# Altium footprint library TransistorThyristor_PTH.PcbLib: 7 footprints
Each footprint in its own frame and in the unit in brackets; x right, y up, seen from the top. Pads: shape width x height; smd on the part's side, far side on the other; paste and mask are expansions set on the pad; w line width, h text height; cw(c..) or ccw(c..) is an arc to the next point about the centre after c.
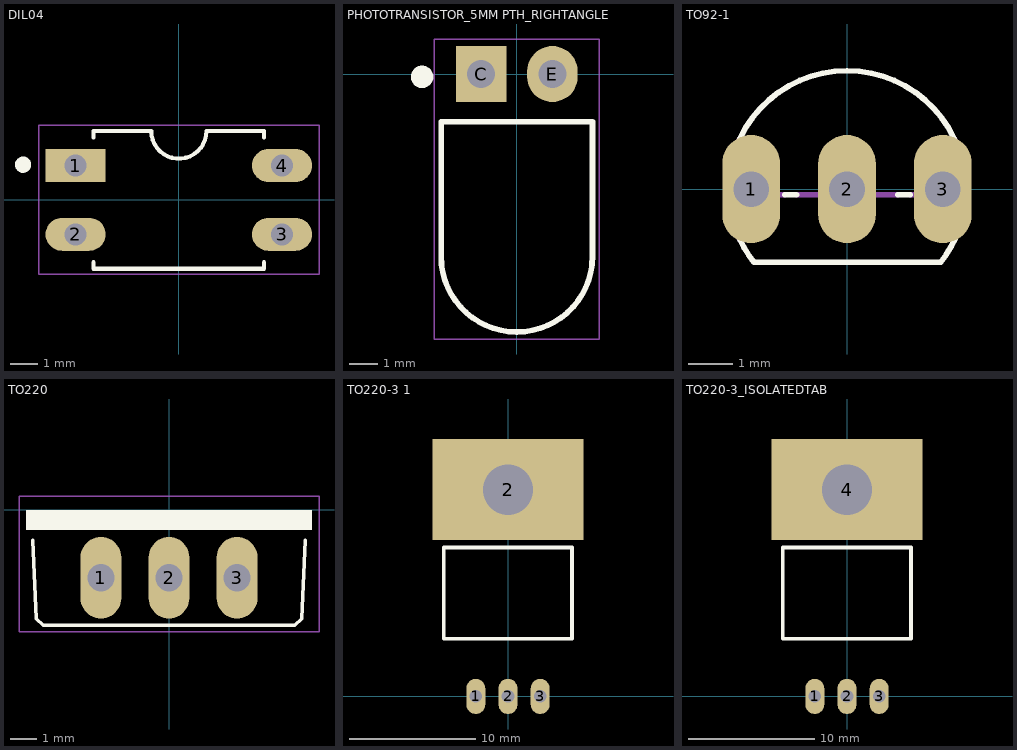
[diagram p0: the footprints below, top view; thin cyan lines are the x and y axes]

## DIL04 [mil]
pads (4):
  rect 87.36x48 hole 32: 1(-150,50)
  oval 87.36x48 hole 32: 2(-150,-50) 3(150,-50) 4(150,50)
Top Overlay:
  circle w11.81: c-226.38,51.18 r5.91
  lines w6: -124.02,-90.55 -124.02,-100 124.02,-100 124.02,-90.55 ; -124.02,90.55 -124.02,100 -40,100 ccw(c0,100) 40,100 124.02,100 124.02,90.55
Mechanical 15:
  lines w1.97: -203.74,-108.27 -203.74,108.27 203.74,108.27 203.74,-108.27 -203.74,-108.27
3D body "DIP4-2.step": height 169.29, standoff -118.11, extent -153,-90.27 156.85,90.04

## PCBComponent_1 [mil]

## PHOTOTRANSISTOR_5MM PTH_RIGHTANGLE [mm]
pads (2):
  rect 1.8x2 hole 1 mask+0.14: C(-1.27,0)
  oval 1.8x2 hole 1 mask+0.14: E(1.27,0)
Top Overlay:
  circle w0.4: c-3.375,-0.1 r0.2
  lines w0.2: -2.7,-6.5 ccw(c0,-6.5) 2.7,-6.5 2.7,-1.7 -2.7,-1.7 -2.7,-6.5
Mechanical 15:
  lines w0.05: -2.95,-9.45 2.95,-9.45 2.95,1.25 -2.95,1.25 -2.95,-9.45
3D body "5mm led 90 graden.stp": height 5.69, standoff -25.35, extent -2.7,-9.2 2.7,0.4

## TO92-1 [mm]
pads (3):
  oval 1.3x2.438 hole 0.8: 1(-2.159,0) 2(0,0) 3(2.159,0)
Top Overlay:
  lines w0.127: -2.413,-1.136 ccw(c-0.001,0) -2.095,-1.651 2.108,-1.651 ccw(c0.014,0.002) 2.438,-1.112 ; -2.413,1.136 cw(c0,0) 2.413,1.136 ; -1.404,-0.127 -1.136,-0.127 ; 1.143,-0.127 1.422,-0.127
Mechanical 16:
  lines w0.127: -2.664,-0.127 -1.404,-0.127 ; -2.413,-1.136 cw(c0,0) -2.413,1.136 ; -1.136,-0.127 1.143,-0.127 ; 1.422,-0.127 2.667,-0.127 ; 2.413,-1.136 ccw(c0,0) 2.413,1.136
3D body "User Library-TO92.step": height 8.51, standoff -2.79, extent -2.765,-1.55 2.765,2.55

## TO220 [mil]
pads (3):
  oval 60x120 hole 40: 1(-100,-100) 2(0,-100) 3(100,-100)
Top Overlay:
  rectangle: -210,-30 210,0
  lines w5: -200,-45 -195,-160 -185,-170 185,-170 195,-160 200,-45
Mechanical 15:
  lines w1.97: -220.47,-179.13 220.47,-179.13 220.47,19.68 -220.47,19.68 -220.47,-179.13
Mechanical 16:
  text "1" at -125,-125 h77.5
  text "2" at -25,-125 h77.5
  text "3" at 75,-125 h77.5
3D body "BTA20-600CWRG.step": height 812.99, standoff -364.17, extent -200.79,-164.57 200.79,12.6

## TO220-3 1 [mm]
pads (4):
  oval 1.5x2.79 hole 1: 1(-2.55,0) 2(0,0) 3(2.55,0)
  rect 12x8 hole 4: 2(0,16.383)
Top Overlay:
  lines w0.3: -5.09,4.572 -5.09,11.811 5.07,11.811 5.07,4.572 -5.09,4.572
3D body "MOSFET TO-220-DEFAULT.SLDPRT": height 4.3, standoff -2.9, extent -5.08,0 5.08,19.49

## TO220-3_ISOLATEDTAB [mm]
pads (4):
  oval 1.5x2.79 hole 1: 1(-2.55,0) 2(0,0) 3(2.55,0)
  rect 12x8 hole 4: 4(0,16.383)
Top Overlay:
  lines w0.3: -5.09,4.572 -5.09,11.811 5.07,11.811 5.07,4.572 -5.09,4.572
3D body "MOSFET TO-220-DEFAULT.SLDPRT": height 4.3, standoff -2.9, extent -5.08,0 5.08,19.49